# EAGLE library part STM32-H107 (library Mes_uC)
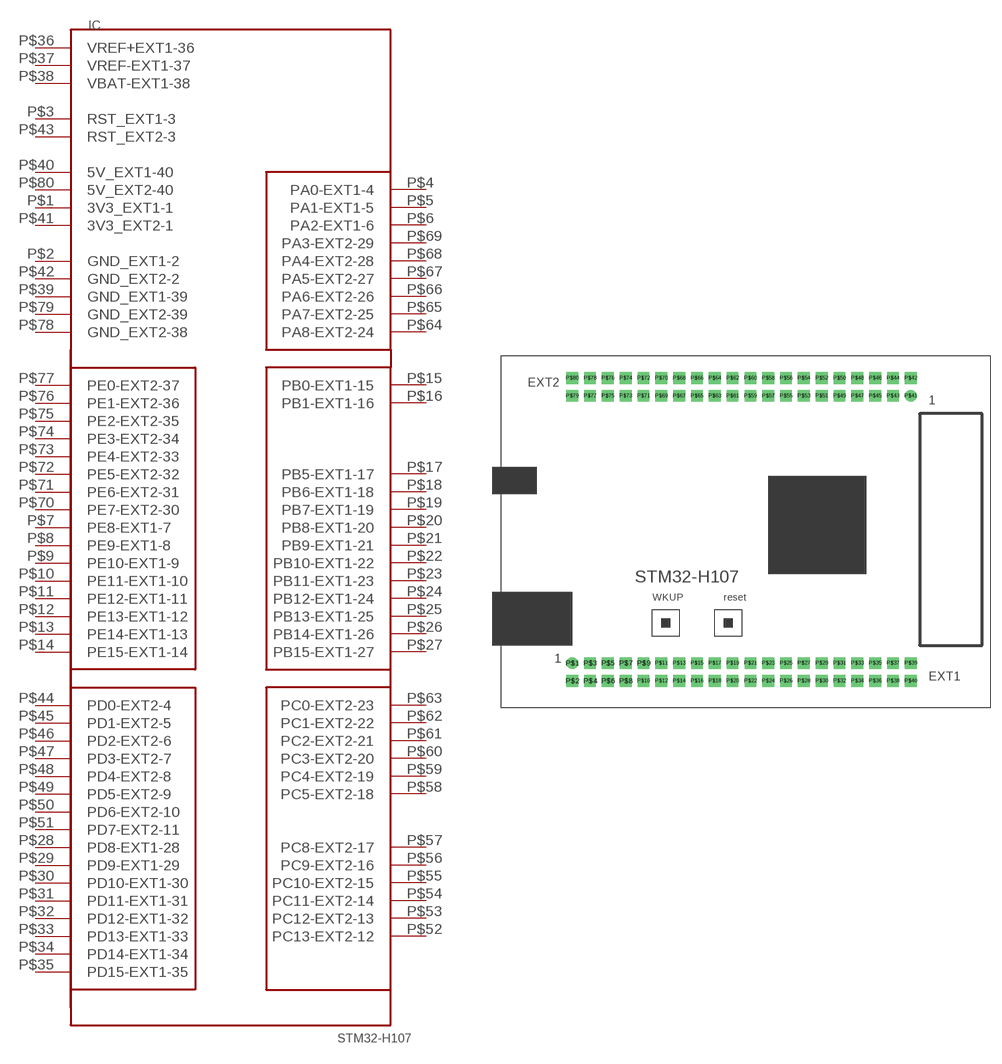
[diagram p8: symbol with the pads of STM32-H107; footprint STM32-H107]

Designator prefix IC

## STM32-H107  [STM32-H107]
P$1  3V3_EXT1-1  out
P$2  GND_EXT1-2  pwr
P$3  RST_EXT1-3  in
P$4  PA0-EXT1-4
P$5  PA1-EXT1-5
P$6  PA2-EXT1-6
P$7  PE8-EXT1-7
P$8  PE9-EXT1-8
P$9  PE10-EXT1-9
P$10  PE11-EXT1-10
P$11  PE12-EXT1-11
P$12  PE13-EXT1-12
P$13  PE14-EXT1-13
P$14  PE15-EXT1-14
P$15  PB0-EXT1-15
P$16  PB1-EXT1-16
P$17  PB5-EXT1-17
P$18  PB6-EXT1-18
P$19  PB7-EXT1-19
P$20  PB8-EXT1-20
P$21  PB9-EXT1-21
P$22  PB10-EXT1-22
P$23  PB11-EXT1-23
P$24  PB12-EXT1-24
P$25  PB13-EXT1-25
P$26  PB14-EXT1-26
P$27  PB15-EXT1-27
P$28  PD8-EXT1-28
P$29  PD9-EXT1-29
P$30  PD10-EXT1-30
P$31  PD11-EXT1-31
P$32  PD12-EXT1-32
P$33  PD13-EXT1-33
P$34  PD14-EXT1-34
P$35  PD15-EXT1-35
P$36  VREF+EXT1-36  out
P$37  VREF-EXT1-37  out
P$38  VBAT-EXT1-38  out
P$39  GND_EXT1-39  pwr
P$40  5V_EXT1-40  out
P$41  3V3_EXT2-1  out
P$42  GND_EXT2-2  pwr
P$43  RST_EXT2-3  in
P$44  PD0-EXT2-4
P$45  PD1-EXT2-5
P$46  PD2-EXT2-6
P$47  PD3-EXT2-7
P$48  PD4-EXT2-8
P$49  PD5-EXT2-9
P$50  PD6-EXT2-10
P$51  PD7-EXT2-11
P$52  PC13-EXT2-12
P$53  PC12-EXT2-13
P$54  PC11-EXT2-14
P$55  PC10-EXT2-15
P$56  PC9-EXT2-16
P$57  PC8-EXT2-17
P$58  PC5-EXT2-18
P$59  PC4-EXT2-19
P$60  PC3-EXT2-20
P$61  PC2-EXT2-21
P$62  PC1-EXT2-22
P$63  PC0-EXT2-23
P$64  PA8-EXT2-24
P$65  PA7-EXT2-25
P$66  PA6-EXT2-26
P$67  PA5-EXT2-27
P$68  PA4-EXT2-28
P$69  PA3-EXT2-29
P$70  PE7-EXT2-30
P$71  PE6-EXT2-31
P$72  PE5-EXT2-32
P$73  PE4-EXT2-33
P$74  PE3-EXT2-34
P$75  PE2-EXT2-35
P$76  PE1-EXT2-36
P$77  PE0-EXT2-37
P$78  GND_EXT2-38  pwr
P$79  GND_EXT2-39  pwr
P$80  5V_EXT2-40  out

## Footprint STM32-H107 (pad centres in mm)
drill 0.8 pad 1.676 round: P$1 10.16,7.62; P$41 58.42,45.72
drill 0.8 pad 1.676 square: P$2 10.16,5.08; P$3 12.7,7.62; P$4 12.7,5.08; P$5 15.24,7.62; P$6 15.24,5.08; P$7 17.78,7.62; P$8 17.78,5.08; P$9 20.32,7.62; P$10 20.32,5.08; P$11 22.86,7.62; P$12 22.86,5.08; P$13 25.4,7.62; P$14 25.4,5.08; P$15 27.94,7.62; P$16 27.94,5.08; P$17 30.48,7.62; P$18 30.48,5.08; P$19 33.02,7.62; P$20 33.02,5.08; P$21 35.56,7.62; P$22 35.56,5.08; P$23 38.1,7.62; P$24 38.1,5.08; P$25 40.64,7.62; P$26 40.64,5.08; P$27 43.18,7.62; P$28 43.18,5.08; P$29 45.72,7.62; P$30 45.72,5.08; P$31 48.26,7.62; P$32 48.26,5.08; P$33 50.8,7.62; P$34 50.8,5.08; P$35 53.34,7.62; P$36 53.34,5.08; P$37 55.88,7.62; P$38 55.88,5.08; P$39 58.42,7.62; P$40 58.42,5.08; P$42 58.42,48.26; P$43 55.88,45.72; P$44 55.88,48.26; P$45 53.34,45.72; P$46 53.34,48.26; P$47 50.8,45.72; P$48 50.8,48.26; P$49 48.26,45.72; P$50 48.26,48.26; P$51 45.72,45.72; P$52 45.72,48.26; P$53 43.18,45.72; P$54 43.18,48.26; P$55 40.64,45.72; P$56 40.64,48.26; P$57 38.1,45.72; P$58 38.1,48.26; P$59 35.56,45.72; P$60 35.56,48.26; P$61 33.02,45.72; P$62 33.02,48.26; P$63 30.48,45.72; P$64 30.48,48.26; P$65 27.94,45.72; P$66 27.94,48.26; P$67 25.4,45.72; P$68 25.4,48.26; P$69 22.86,45.72; P$70 22.86,48.26; P$71 20.32,45.72; P$72 20.32,48.26; P$73 17.78,45.72; P$74 17.78,48.26; P$75 15.24,45.72; P$76 15.24,48.26; P$77 12.7,45.72; P$78 12.7,48.26; P$79 10.16,45.72; P$80 10.16,48.26